# EAGLE library part SOIC32 (library longpad)
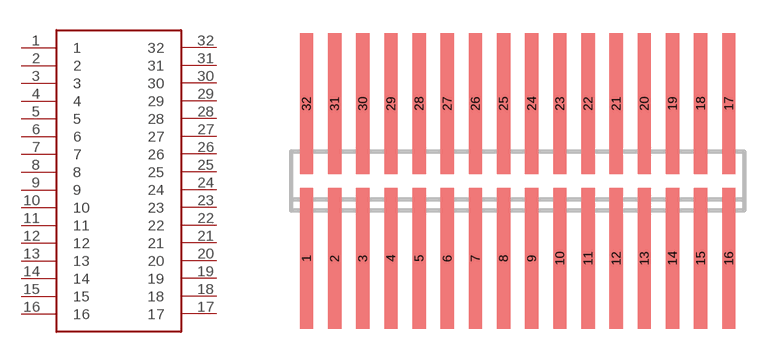
[diagram p1: symbol with the pads of SO32X; footprint SO32X]

Designator prefix -

## SOIC32  [SO32X]
1  1
2  2
3  3
4  4
5  5
6  6
7  7
8  8
9  9
10  10
11  11
12  12
13  13
14  14
15  15
16  16
17  17
18  18
19  19
20  20
21  21
22  22
23  23
24  24
25  25
26  26
27  27
28  28
29  29
30  30
31  31
32  32

## Footprint SO32X (pad centres in mm)
smd 0.6 x 6.35: 1 -9.525,-3.495; 2 -8.255,-3.495; 3 -6.985,-3.495; 4 -5.715,-3.495; 5 -4.445,-3.495; 6 -3.175,-3.495; 7 -1.905,-3.495; 8 -0.635,-3.495; 9 0.635,-3.495; 10 1.905,-3.495; 11 3.175,-3.495; 12 4.445,-3.495; 13 5.715,-3.495; 14 6.985,-3.495; 15 8.255,-3.495; 16 9.525,-3.495; 17 9.525,3.495; 18 8.255,3.495; 19 6.985,3.495; 20 5.715,3.495; 21 4.445,3.495; 22 3.175,3.495; 23 1.905,3.495; 24 0.635,3.495; 25 -0.635,3.495; 26 -1.905,3.495; 27 -3.175,3.495; 28 -4.445,3.495; 29 -5.715,3.49; 30 -6.985,3.49; 31 -8.255,3.49; 32 -9.525,3.49